# EAGLE library part ADAFRUIT_AVRISP (library TLog)
AVR ISP HEADER Standard 6 pin header for AVR programming
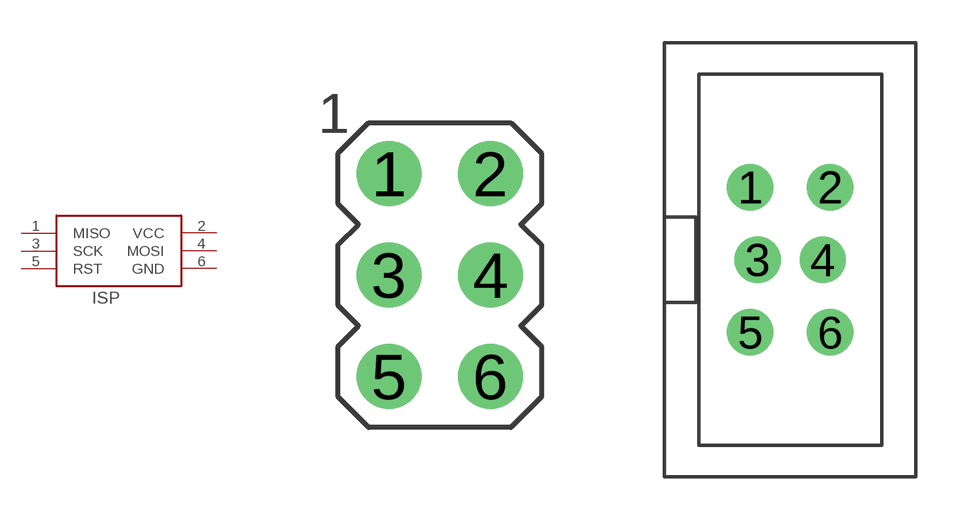
[diagram p3: symbol with the pads of ADAFRUIT_AVRISP; footprints ADAFRUIT_AVRISP, ADAFRUIT_AVRISP-BOX]

Designator prefix ISP

## ADAFRUIT_AVRISP-6  [ADAFRUIT_AVRISP]
1  MISO  in
2  VCC  pwr
3  SCK  out
4  MOSI  out
5  RST  out
6  GND  pwr

## ADAFRUIT_AVRISP-BOX  [ADAFRUIT_AVRISP-BOX]
Pads as for ADAFRUIT_AVRISP

## Footprint ADAFRUIT_AVRISP (pad centres in mm)
drill 0.9 pad 1.626: 1 -1.27,2.54; 2 1.27,2.54; 3 -1.27,0; 4 1.27,0; 5 -1.27,-2.54; 6 1.27,-2.54

## Footprint ADAFRUIT_AVRISP-BOX (pad centres in mm)
drill 0.9 pad 1.626: 1 -1.397,2.54; 2 1.397,2.54; 3 -1.143,0; 4 1.143,0; 5 -1.397,-2.54; 6 1.397,-2.54